# Altium footprint library PCB Library.PcbLib: 3 footprints
Each footprint in its own frame and in the unit in brackets; x right, y up, seen from the top. Pads: shape width x height; smd on the part's side, far side on the other; paste and mask are expansions set on the pad; w line width, h text height; cw(c..) or ccw(c..) is an arc to the next point about the centre after c.
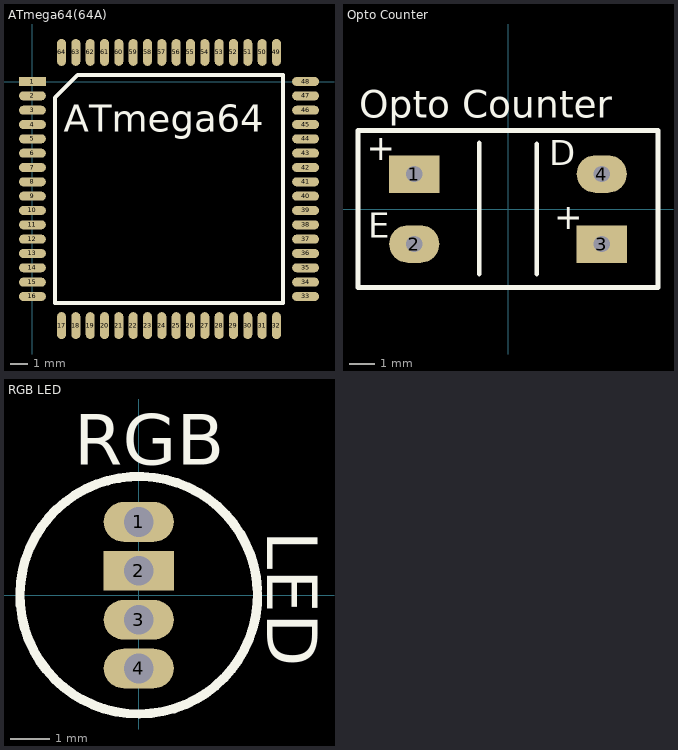
[diagram p0: the footprints below, top view; thin cyan lines are the x and y axes]

## ATmega64(64A) [mm]
pads (64):
  rect 1.5x0.5 smd: 1(0,0)
  oval 1.5x0.5 smd: 2(0,-0.8) 3(0,-1.6) 4(0,-2.4) 5(0,-3.2) 6(0,-4) 7(0,-4.8) 8(0,-5.6) 9(0,-6.4) 10(0,-7.2) 11(0,-8) 12(0,-8.8) 13(0,-9.6) 14(0,-10.4) 15(0,-11.2) 16(0,-12) 33(15.25,-12) 34(15.25,-11.2) 35(15.25,-10.4) 36(15.25,-9.6) 37(15.25,-8.8) 38(15.25,-8) 39(15.25,-7.2) 40(15.25,-6.4) 41(15.25,-5.6) 42(15.25,-4.8) 43(15.25,-4) 44(15.25,-3.2) 45(15.25,-2.4) 46(15.25,-1.6) 47(15.25,-0.8) 48(15.25,0)
  oval 0.5x1.5 smd: 17(1.625,-13.625) 18(2.425,-13.625) 19(3.225,-13.625) 20(4.025,-13.625) 21(4.825,-13.625) 22(5.625,-13.625) 23(6.425,-13.625) 24(7.225,-13.625) 25(8.025,-13.625) 26(8.825,-13.625) 27(9.625,-13.625) 28(10.425,-13.625) 29(11.225,-13.625) 30(12.025,-13.625) 31(12.825,-13.625) 32(13.625,-13.625) 49(13.625,1.625) 50(12.825,1.625) 51(12.025,1.625) 52(11.225,1.625) 53(10.425,1.625) 54(9.625,1.625) 55(8.825,1.625) 56(8.025,1.625) 57(7.225,1.625) 58(6.425,1.625) 59(5.625,1.625) 60(4.825,1.625) 61(4.025,1.625) 62(3.225,1.625) 63(2.425,1.625) 64(1.625,1.625)
Top Overlay:
  lines w0.25: 1.26,-12.365 13.99,-12.365 13.99,0.365 2.52,0.365 1.26,-0.895 1.26,-12.365
  text "ATmega64" at 1.75,-2.8 h1.5

## Opto Counter [mm]
pads (4):
  rect 2x1.5 hole 0.65: 1(-3.75,1.4) 3(3.75,-1.4)
  oval 2x1.5 hole 0.65: 2(-3.75,-1.4) 4(3.75,1.4)
Top Overlay:
  lines w0.2: -1.15,-2.6 -1.15,2.65 ; 1.15,-2.6 1.15,2.6 ; -6,-3.15 6,-3.15 6,3.15 -6,3.15 -6,-3.15
  text "Opto Counter" at -5.95,3.65 h1.1
  text "+" at -5.65,1.95 h1
  text "+" at 1.85,-0.8 h1
  text "D" at 1.65,1.75 h1
  text "E" at -5.6,-1.15 h1

## RGB LED [mm]
pads (4):
  oval 1.8x1.02 hole 0.762: 1(0,1.88) 3(0,-0.63) 4(0,-1.88)
  rect 1.8x1.02 hole 0.762: 2(0,0.63)
Top Overlay:
  lines w0.24: 3.044,0.152 ccw(c0,0) 3.047,0.068
  text "RGB" at -1.65,3.35 h1.3
  text "LED" at 3.3,1.65 h1.3